# EAGLE library part RPI_CM3 (library airball)
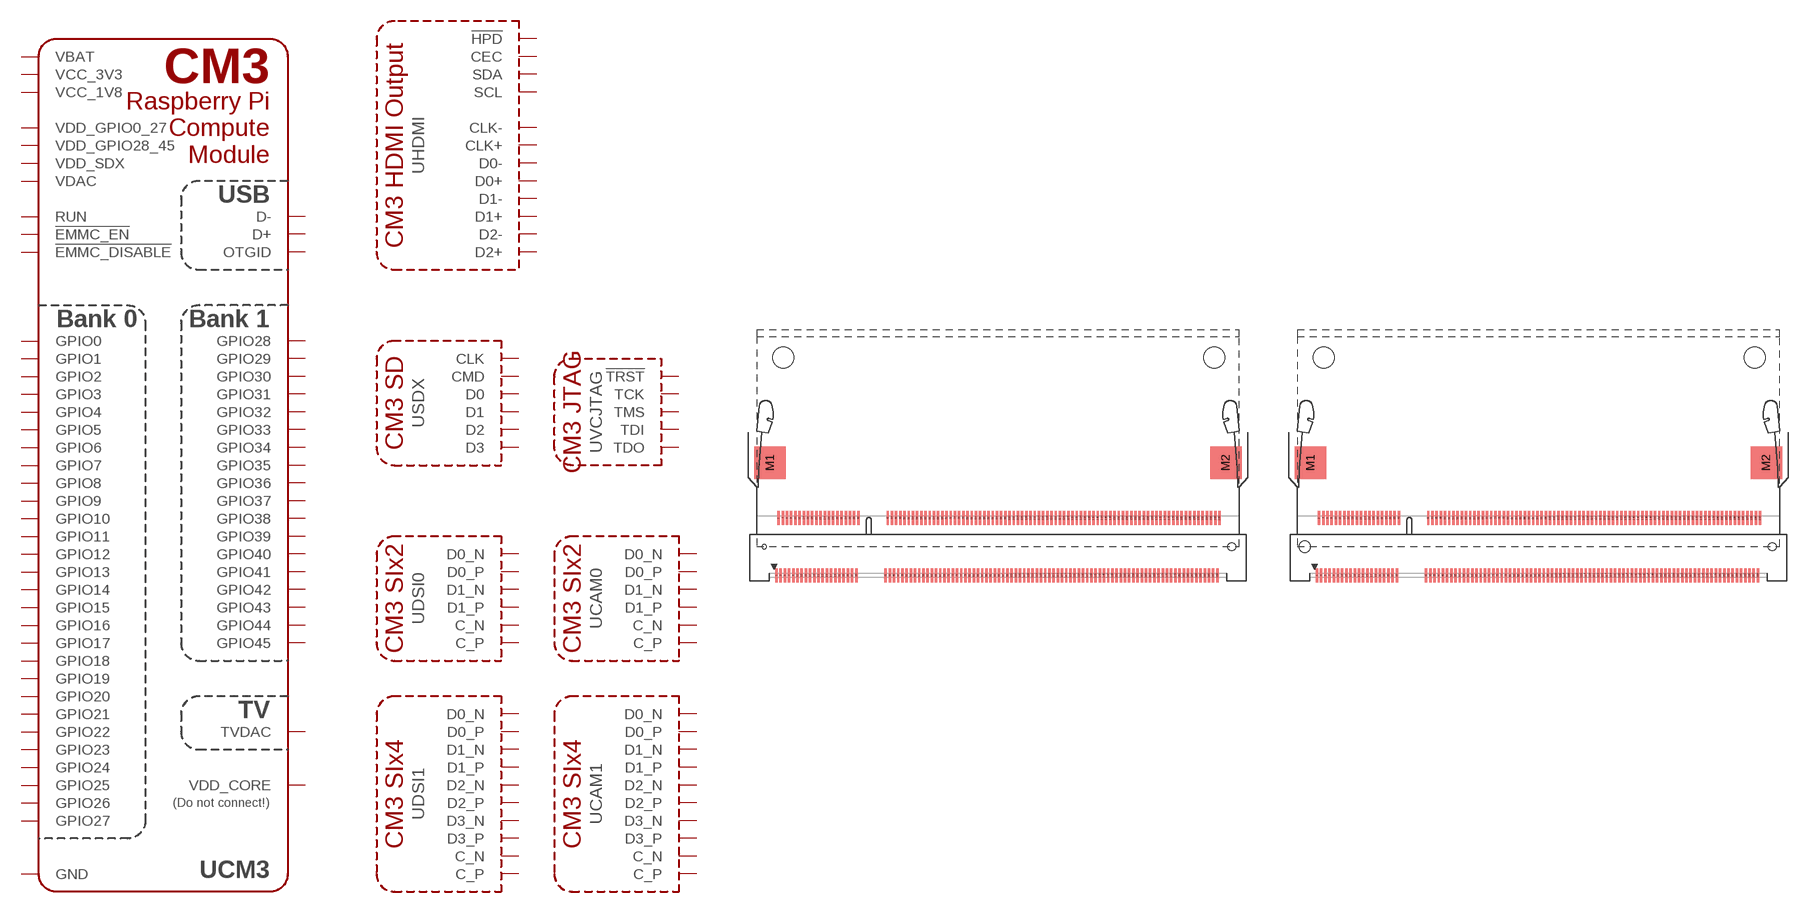
[diagram p4: symbol with the pads of RPI_CM_SOCKET; footprints RPI_CM_SOCKET, AMP_1473149]

Designator prefix -; gates CM3=RPI_CM3_CORE HDMI=RPI_CM3_HDMI DSI0=RPI_CM3_SI2 CAM0=RPI_CM3_SI2 DSI1=RPI_CM3_SI4 CAM1=RPI_CM3_SI4 SDX=RPI_CM3_SD VCJTAG=RPI_CM3_JTAG

## RPI_CM3-TYCO1376408  [RPI_CM_SOCKET]
1  CM3:GND  pwr
2  CM3:!EMMC_DISABLE  in
3  CM3:GPIO0
4  CM3:VDD_SDX  pwr
5  CM3:GPIO1
6  CM3:VDD_SDX  pwr
7  CM3:GND  pwr
8  CM3:GND  pwr
9  CM3:GPIO2
10  SDX:CLK  out
11  CM3:GPIO3
12  SDX:CMD
13  CM3:GND  pwr
14  CM3:GND  pwr
15  CM3:GPIO4
16  SDX:D0
17  CM3:GPIO5
18  SDX:D1
19  CM3:GND  pwr
20  CM3:GND  pwr
21  CM3:GPIO6
22  SDX:D2
23  CM3:GPIO7
24  SDX:D3
25  CM3:GND  pwr
26  CM3:GND  pwr
27  CM3:GPIO8
28  CM3:GPIO28
29  CM3:GPIO9
30  CM3:GPIO29
31  CM3:GND  pwr
32  CM3:GND  pwr
33  CM3:GPIO10
34  CM3:GPIO30
35  CM3:GPIO11
36  CM3:GPIO31
37  CM3:GND  pwr
38  CM3:GND  pwr
39  CM3:VDD_GPIO0_27  pwr
40  CM3:VDD_GPIO0_27  pwr
41  CM3:VDD_GPIO28_45  pwr
42  CM3:VDD_GPIO28_45  pwr
43  CM3:GND  pwr
44  CM3:GND  pwr
45  CM3:GPIO12
46  CM3:GPIO32
47  CM3:GPIO13
48  CM3:GPIO33
49  CM3:GND  pwr
50  CM3:GND  pwr
51  CM3:GPIO14
52  CM3:GPIO34
53  CM3:GPIO15
54  CM3:GPIO35
55  CM3:GND  pwr
56  CM3:GND  pwr
57  CM3:GPIO16
58  CM3:GPIO36
59  CM3:GPIO17
60  CM3:GPIO37
61  CM3:GND  pwr
62  CM3:GND  pwr
63  CM3:GPIO18
64  CM3:GPIO38
65  CM3:GPIO19
66  CM3:GPIO39
67  CM3:GND  pwr
68  CM3:GND  pwr
69  CM3:GPIO20
70  CM3:GPIO40
71  CM3:GPIO21
72  CM3:GPIO41
73  CM3:GND  pwr
74  CM3:GND  pwr
75  CM3:GPIO22
76  CM3:GPIO42
77  CM3:GPIO23
78  CM3:GPIO43
79  CM3:GND  pwr
80  CM3:GND  pwr
81  CM3:GPIO24
82  CM3:GPIO44
83  CM3:GPIO25
84  CM3:GPIO45
85  CM3:GND  pwr
86  CM3:GND  pwr
87  CM3:GPIO26
88  HDMI:!HPD  in
89  CM3:GPIO27
90  CM3:!EMMC_EN  out
91  CM3:GND  pwr
92  CM3:GND  pwr
93  DSI0:D1_N
94  DSI1:D0_P
95  DSI0:D1_P
96  DSI1:D0_N
97  CM3:GND  pwr
98  CM3:GND  pwr
99  DSI0:D0_N
100  DSI1:C_P
101  DSI0:D0_P
102  DSI1:C_N
103  CM3:GND  pwr
104  CM3:GND  pwr
105  DSI0:C_N
106  DSI1:D3_P
107  DSI0:C_P
108  DSI1:D3_N
109  CM3:GND  pwr
110  CM3:GND  pwr
111  HDMI:CLK-  out
112  DSI1:D2_P
113  HDMI:CLK+  out
114  DSI1:D2_N
115  CM3:GND  pwr
116  CM3:GND  pwr
117  HDMI:D0-  out
118  DSI1:D1_P
119  HDMI:D0+  out
120  DSI1:D1_N
121  CM3:GND  pwr
122  CM3:GND  pwr
123  HDMI:D1-  out
125  HDMI:D1+  out
127  CM3:GND  pwr
129  HDMI:D2-  out
131  HDMI:D2+  out
133  CM3:GND  pwr
134  CM3:GND  pwr
135  CAM1:D3_P
136  CAM0:D0_P
137  CAM1:D3_N
138  CAM0:D0_N
139  CM3:GND  pwr
140  CM3:GND  pwr
141  CAM1:D2_P
142  CAM0:C_P
143  CAM1:D2_N
144  CAM0:C_N
145  CM3:GND  pwr
146  CM3:GND  pwr
147  CAM1:C_P
148  CAM0:D1_P
149  CAM1:C_N
150  CAM0:D1_N
151  CM3:GND  pwr
152  CM3:GND  pwr
153  CAM1:D1_P
155  CAM1:D1_N
157  CM3:GND  pwr
159  CAM1:D0_P
161  CAM1:D0_N
163  CM3:GND  pwr
164  CM3:GND  pwr
165  CM3:D+
166  CM3:TVDAC  out
167  CM3:D-
168  CM3:OTGID  in
169  CM3:GND  pwr
170  CM3:GND  pwr
171  HDMI:CEC
172  VCJTAG:!TRST  in
173  HDMI:SDA
174  VCJTAG:TDI  in
175  HDMI:SCL  out
176  VCJTAG:TMS  in
177  CM3:RUN  in
178  VCJTAG:TDO  out
179  CM3:VDD_CORE  nc
180  VCJTAG:TCK  in
181  CM3:GND  pwr
182  CM3:GND  pwr
183  CM3:VCC_1V8  pwr
184  CM3:VCC_1V8  pwr
185  CM3:VCC_1V8  pwr
186  CM3:VCC_1V8  pwr
187  CM3:GND  pwr
188  CM3:GND  pwr
189  CM3:VDAC  pwr
190  CM3:VDAC  pwr
191  CM3:VCC_3V3  pwr
192  CM3:VCC_3V3  pwr
193  CM3:VCC_3V3  pwr
194  CM3:VCC_3V3  pwr
195  CM3:GND  pwr
196  CM3:GND  pwr
197  CM3:VBAT  pwr
198  CM3:VBAT  pwr
199  CM3:VBAT  pwr
200  CM3:VBAT  pwr

## RPI_CM3-AMP_1473149  [AMP_1473149]
Pads as for RPI_CM_SOCKET

## Footprint RPI_CM_SOCKET (pad centres in mm)
DDR1 SODIMM SOCKET 0.6mm Pitch 200 Pos. Connector for Kontron X-Board 1.8V Source: http://catalog.tycoelectronics.com ... JPN_CD_1376408_S.pdf
smd 0.35 x 2: 1 -31.65,-4.1; 2 -31.35,4.1; 3 -31.05,-4.1; 4 -30.75,4.1; 5 -30.45,-4.1; 6 -30.15,4.1; 7 -29.85,-4.1; 8 -29.55,4.1; 9 -29.25,-4.1; 10 -28.95,4.1; 11 -28.65,-4.1; 12 -28.35,4.1; 13 -28.05,-4.1; 14 -27.75,4.1; 15 -27.45,-4.1; 16 -27.15,4.1; 17 -26.85,-4.1; 18 -26.55,4.1; 19 -26.25,-4.1; 20 -25.95,4.1; 21 -25.65,-4.1; 22 -25.35,4.1; 23 -25.05,-4.1; 24 -24.75,4.1; 25 -24.45,-4.1; 26 -24.15,4.1; 27 -23.85,-4.1; 28 -23.55,4.1; 29 -23.25,-4.1; 30 -22.95,4.1; 31 -22.65,-4.1; 32 -22.35,4.1; 33 -22.05,-4.1; 34 -21.75,4.1; 35 -21.45,-4.1; 36 -21.15,4.1; 37 -20.85,-4.1; 38 -20.55,4.1; 39 -20.25,-4.1; 40 -19.95,4.1; 41 -16.05,-4.1; 42 -15.75,4.1; 43 -15.45,-4.1; 44 -15.15,4.1; 45 -14.85,-4.1; 46 -14.55,4.1; 47 -14.25,-4.1; 48 -13.95,4.1; 49 -13.65,-4.1; 50 -13.35,4.1; 51 -13.05,-4.1; 52 -12.75,4.1; 53 -12.45,-4.1; 54 -12.15,4.1; 55 -11.85,-4.1; 56 -11.55,4.1; 57 -11.25,-4.1; 58 -10.95,4.1; 59 -10.65,-4.1; 60 -10.35,4.1; 61 -10.05,-4.1; 62 -9.75,4.1; 63 -9.45,-4.1; 64 -9.15,4.1; 65 -8.85,-4.1; 66 -8.55,4.1; 67 -8.25,-4.1; 68 -7.95,4.1; 69 -7.65,-4.1; 70 -7.35,4.1; 71 -7.05,-4.1; 72 -6.75,4.1; 73 -6.45,-4.1; 74 -6.15,4.1; 75 -5.85,-4.1; 76 -5.55,4.1; 77 -5.25,-4.1; 78 -4.95,4.1; 79 -4.65,-4.1; 80 -4.35,4.1; 81 -4.05,-4.1; 82 -3.75,4.1; 83 -3.45,-4.1; 84 -3.15,4.1; 85 -2.85,-4.1; 86 -2.55,4.1; 87 -2.25,-4.1; 88 -1.95,4.1; 89 -1.65,-4.1; 90 -1.35,4.1; 91 -1.05,-4.1; 92 -0.75,4.1; 93 -0.45,-4.1; 94 -0.15,4.1; 95 0.15,-4.1; 96 0.45,4.1; 97 0.75,-4.1; 98 1.05,4.1; 99 1.35,-4.1; 100 1.65,4.1; 101 1.95,-4.1; 102 2.25,4.1; 103 2.55,-4.1; 104 2.85,4.1; 105 3.15,-4.1; 106 3.45,4.1; 107 3.75,-4.1; 108 4.05,4.1; 109 4.35,-4.1; 110 4.65,4.1; 111 4.95,-4.1; 112 5.25,4.1; 113 5.55,-4.1; 114 5.85,4.1; 115 6.15,-4.1; 116 6.45,4.1; 117 6.75,-4.1; 118 7.05,4.1; 119 7.35,-4.1; 120 7.65,4.1; 121 7.95,-4.1; 122 8.25,4.1; 123 8.55,-4.1; 124 8.85,4.1; 125 9.15,-4.1; 126 9.45,4.1; 127 9.75,-4.1; 128 10.05,4.1; 129 10.35,-4.1; 130 10.65,4.1; 131 10.95,-4.1; 132 11.25,4.1; 133 11.55,-4.1; 134 11.85,4.1; 135 12.15,-4.1; 136 12.45,4.1; 137 12.75,-4.1; 138 13.05,4.1; 139 13.35,-4.1; 140 13.65,4.1; 141 13.95,-4.1; 142 14.25,4.1; 143 14.55,-4.1; 144 14.85,4.1; 145 15.15,-4.1; 146 15.45,4.1; 147 15.75,-4.1; 148 16.05,4.1; 149 16.35,-4.1; 150 16.65,4.1; 151 16.95,-4.1; 152 17.25,4.1; 153 17.55,-4.1; 154 17.85,4.1; 155 18.15,-4.1; 156 18.45,4.1; 157 18.75,-4.1; 158 19.05,4.1; 159 19.35,-4.1; 160 19.65,4.1; 161 19.95,-4.1; 162 20.25,4.1; 163 20.55,-4.1; 164 20.85,4.1; 165 21.15,-4.1; 166 21.45,4.1; 167 21.75,-4.1; 168 22.05,4.1; 169 22.35,-4.1; 170 22.65,4.1; 171 22.95,-4.1; 172 23.25,4.1; 173 23.55,-4.1; 174 23.85,4.1; 175 24.15,-4.1; 176 24.45,4.1; 177 24.75,-4.1; 178 25.05,4.1; 179 25.35,-4.1; 180 25.65,4.1; 181 25.95,-4.1; 182 26.25,4.1; 183 26.55,-4.1; 184 26.85,4.1; 185 27.15,-4.1; 186 27.45,4.1; 187 27.75,-4.1; 188 28.05,4.1; 189 28.35,-4.1; 190 28.65,4.1; 191 28.95,-4.1; 192 29.25,4.1; 193 29.55,-4.1; 194 29.85,4.1; 195 30.15,-4.1; 196 30.45,4.1; 197 30.75,-4.1; 198 31.05,4.1; 199 31.35,-4.1; 200 31.65,4.1
smd 4.5 x 4.6: M1 -32.55,12; M2 32.55,12
hole 0.6 at -33.4,0
hole 1.1 at 33.4,0
hole 3 at -30.7,27
hole 3 at 30.9,27

## Footprint AMP_1473149 (pad centres in mm)
Raspberry Pi Compute Module Connector TE Connectivity AMP 1473149-4 DDR200 1.8V
smd 0.35 x 2: 1 -31.65,-4.1; 2 -31.35,4.1; 3 -31.05,-4.1; 4 -30.75,4.1; 5 -30.45,-4.1; 6 -30.15,4.1; 7 -29.85,-4.1; 8 -29.55,4.1; 9 -29.25,-4.1; 10 -28.95,4.1; 11 -28.65,-4.1; 12 -28.35,4.1; 13 -28.05,-4.1; 14 -27.75,4.1; 15 -27.45,-4.1; 16 -27.15,4.1; 17 -26.85,-4.1; 18 -26.55,4.1; 19 -26.25,-4.1; 20 -25.95,4.1; 21 -25.65,-4.1; 22 -25.35,4.1; 23 -25.05,-4.1; 24 -24.75,4.1; 25 -24.45,-4.1; 26 -24.15,4.1; 27 -23.85,-4.1; 28 -23.55,4.1; 29 -23.25,-4.1; 30 -22.95,4.1; 31 -22.65,-4.1; 32 -22.35,4.1; 33 -22.05,-4.1; 34 -21.75,4.1; 35 -21.45,-4.1; 36 -21.15,4.1; 37 -20.85,-4.1; 38 -20.55,4.1; 39 -20.25,-4.1; 40 -19.95,4.1; 41 -16.05,-4.1; 42 -15.75,4.1; 43 -15.45,-4.1; 44 -15.15,4.1; 45 -14.85,-4.1; 46 -14.55,4.1; 47 -14.25,-4.1; 48 -13.95,4.1; 49 -13.65,-4.1; 50 -13.35,4.1; 51 -13.05,-4.1; 52 -12.75,4.1; 53 -12.45,-4.1; 54 -12.15,4.1; 55 -11.85,-4.1; 56 -11.55,4.1; 57 -11.25,-4.1; 58 -10.95,4.1; 59 -10.65,-4.1; 60 -10.35,4.1; 61 -10.05,-4.1; 62 -9.75,4.1; 63 -9.45,-4.1; 64 -9.15,4.1; 65 -8.85,-4.1; 66 -8.55,4.1; 67 -8.25,-4.1; 68 -7.95,4.1; 69 -7.65,-4.1; 70 -7.35,4.1; 71 -7.05,-4.1; 72 -6.75,4.1; 73 -6.45,-4.1; 74 -6.15,4.1; 75 -5.85,-4.1; 76 -5.55,4.1; 77 -5.25,-4.1; 78 -4.95,4.1; 79 -4.65,-4.1; 80 -4.35,4.1; 81 -4.05,-4.1; 82 -3.75,4.1; 83 -3.45,-4.1; 84 -3.15,4.1; 85 -2.85,-4.1; 86 -2.55,4.1; 87 -2.25,-4.1; 88 -1.95,4.1; 89 -1.65,-4.1; 90 -1.35,4.1; 91 -1.05,-4.1; 92 -0.75,4.1; 93 -0.45,-4.1; 94 -0.15,4.1; 95 0.15,-4.1; 96 0.45,4.1; 97 0.75,-4.1; 98 1.05,4.1; 99 1.35,-4.1; 100 1.65,4.1; 101 1.95,-4.1; 102 2.25,4.1; 103 2.55,-4.1; 104 2.85,4.1; 105 3.15,-4.1; 106 3.45,4.1; 107 3.75,-4.1; 108 4.05,4.1; 109 4.35,-4.1; 110 4.65,4.1; 111 4.95,-4.1; 112 5.25,4.1; 113 5.55,-4.1; 114 5.85,4.1; 115 6.15,-4.1; 116 6.45,4.1; 117 6.75,-4.1; 118 7.05,4.1; 119 7.35,-4.1; 120 7.65,4.1; 121 7.95,-4.1; 122 8.25,4.1; 123 8.55,-4.1; 124 8.85,4.1; 125 9.15,-4.1; 126 9.45,4.1; 127 9.75,-4.1; 128 10.05,4.1; 129 10.35,-4.1; 130 10.65,4.1; 131 10.95,-4.1; 132 11.25,4.1; 133 11.55,-4.1; 134 11.85,4.1; 135 12.15,-4.1; 136 12.45,4.1; 137 12.75,-4.1; 138 13.05,4.1; 139 13.35,-4.1; 140 13.65,4.1; 141 13.95,-4.1; 142 14.25,4.1; 143 14.55,-4.1; 144 14.85,4.1; 145 15.15,-4.1; 146 15.45,4.1; 147 15.75,-4.1; 148 16.05,4.1; 149 16.35,-4.1; 150 16.65,4.1; 151 16.95,-4.1; 152 17.25,4.1; 153 17.55,-4.1; 154 17.85,4.1; 155 18.15,-4.1; 156 18.45,4.1; 157 18.75,-4.1; 158 19.05,4.1; 159 19.35,-4.1; 160 19.65,4.1; 161 19.95,-4.1; 162 20.25,4.1; 163 20.55,-4.1; 164 20.85,4.1; 165 21.15,-4.1; 166 21.45,4.1; 167 21.75,-4.1; 168 22.05,4.1; 169 22.35,-4.1; 170 22.65,4.1; 171 22.95,-4.1; 172 23.25,4.1; 173 23.55,-4.1; 174 23.85,4.1; 175 24.15,-4.1; 176 24.45,4.1; 177 24.75,-4.1; 178 25.05,4.1; 179 25.35,-4.1; 180 25.65,4.1; 181 25.95,-4.1; 182 26.25,4.1; 183 26.55,-4.1; 184 26.85,4.1; 185 27.15,-4.1; 186 27.45,4.1; 187 27.75,-4.1; 188 28.05,4.1; 189 28.35,-4.1; 190 28.65,4.1; 191 28.95,-4.1; 192 29.25,4.1; 193 29.55,-4.1; 194 29.85,4.1; 195 30.15,-4.1; 196 30.45,4.1; 197 30.75,-4.1; 198 31.05,4.1; 199 31.35,-4.1; 200 31.65,4.1
smd 4.5 x 4.6: M1 -32.55,12; M2 32.55,12
hole 1.6 at -33.4,0
hole 1.1 at 33.4,0
hole 3 at -30.7,27
hole 3 at 30.9,27